# Altium schematic symbol library Domino 3Pin.SchLib: 1 symbol
Pins are listed as number, name and electrical type; pins without a type are passive.

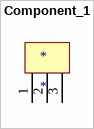
[diagram p0: symbol Component_1]

## Component_1
designator *
pins: 1 PIN, 2 PIN, 3 PIN